# Altium schematic symbol library XL-5050RGBC.SchLib: 1 symbol
Pins are listed as number, name and electrical type; pins without a type are passive.

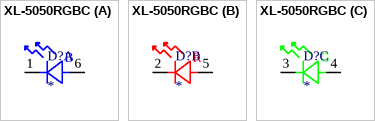
[diagram p0: symbol XL-5050RGBC]

## XL-5050RGBC
designator D?
footprint XL-5050RGBC
part A pins: 1, 6
part B pins: 2, 5
part C pins: 3, 4
part A text: B
part B text: R
part C text: G